# Altium footprint library PcbLib1.PcbLib: 21 footprints (part 1 of 2)
Each footprint in its own frame and in the unit in brackets; x right, y up, seen from the top. Pads: shape width x height; smd on the part's side, far side on the other; paste and mask are expansions set on the pad; w line width, h text height; cw(c..) or ccw(c..) is an arc to the next point about the centre after c.
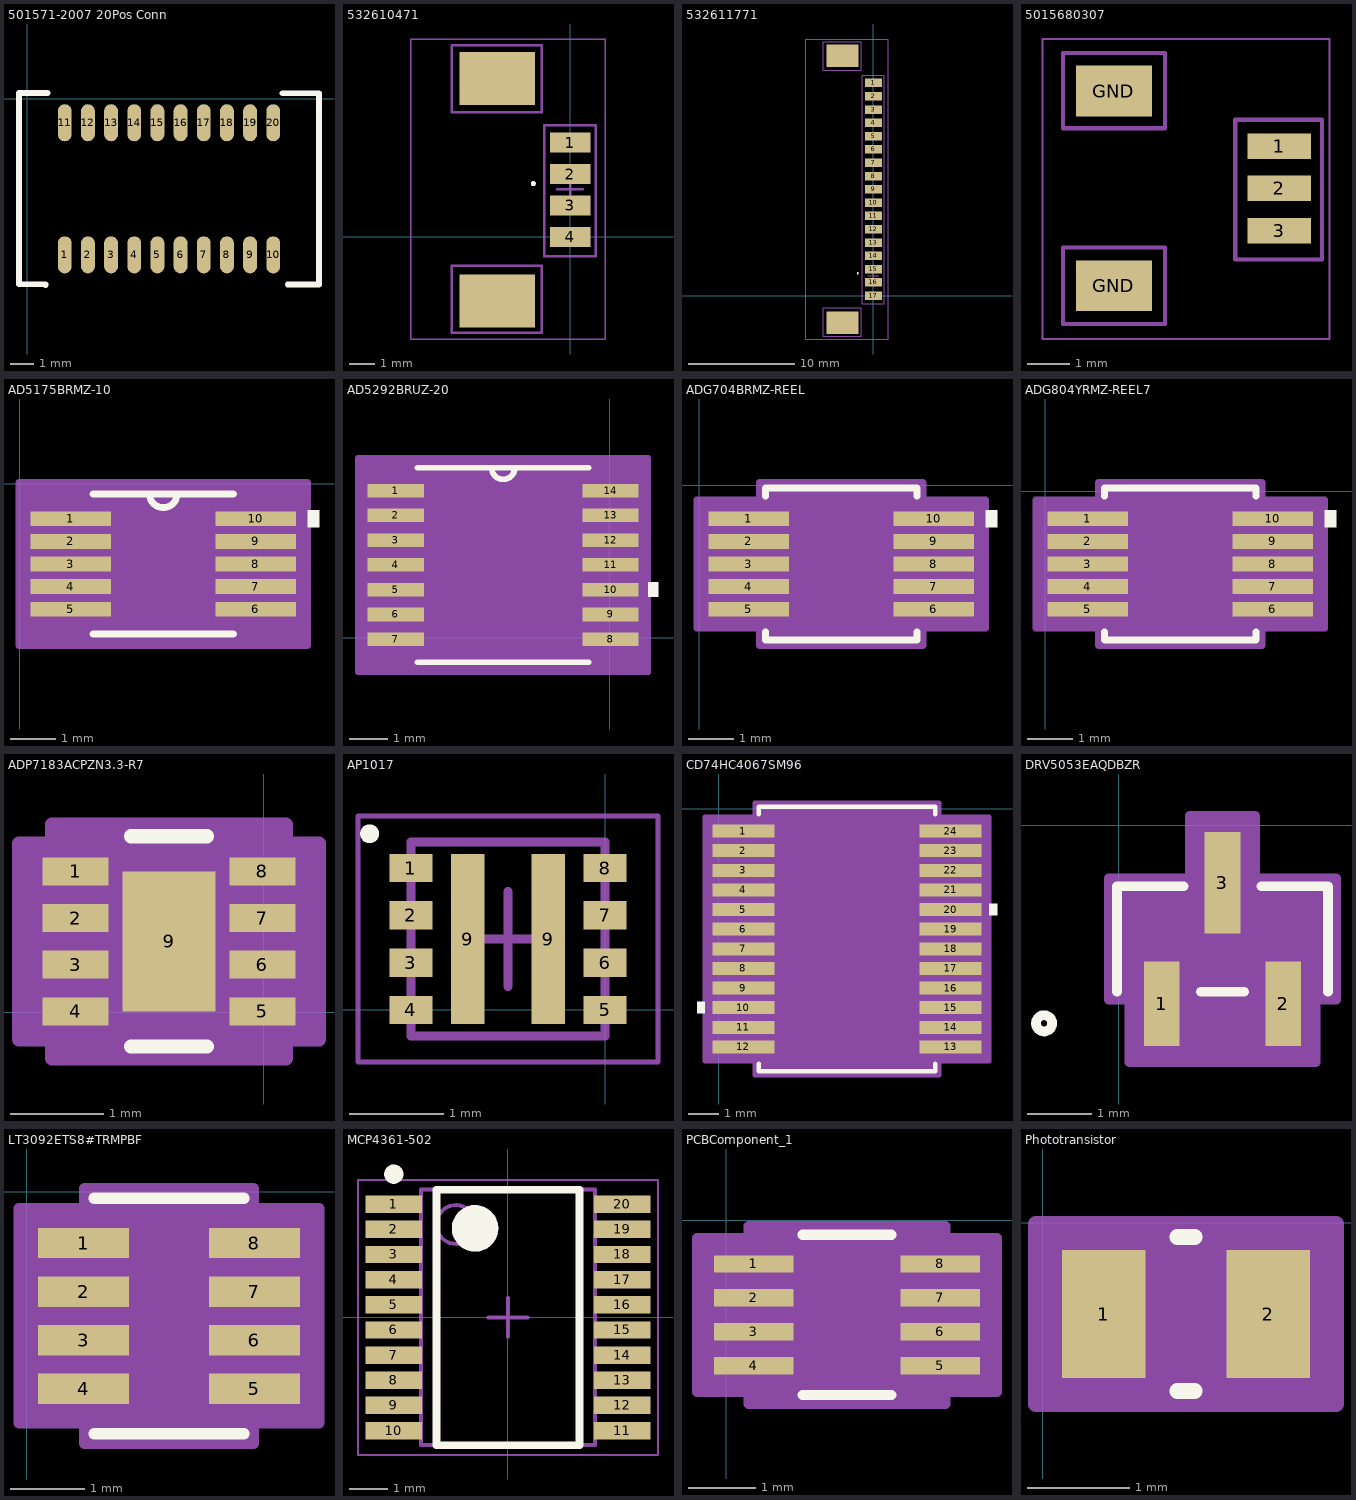
[diagram p0: the footprints below, top view; thin cyan lines are the x and y axes]

## 501571-2007 20Pos Conn [mm] "Pico-Clasp 1.0mm 20Pos"
height 8.25
pads (20):
  oval 0.6x1.6 smd: 1(1.626,-6.741) 2(2.626,-6.741) 3(3.626,-6.741) 4(4.626,-6.741) 5(5.626,-6.741) 6(6.626,-6.741) 7(7.626,-6.741) 8(8.626,-6.741) 9(9.626,-6.741) 10(10.626,-6.741) 11(1.626,-1.041) 12(2.626,-1.041) 13(3.626,-1.041) 14(4.626,-1.041) 15(5.626,-1.041) 16(6.626,-1.041) 17(7.626,-1.041) 18(8.626,-1.041) 19(9.626,-1.041) 20(10.626,-1.041)
Top Overlay:
  lines w0.254: 0.801,-8.041 0.801,-8.011 -0.349,-8.011 -0.349,0.239 0.876,0.239 ; 11.026,0.234 12.601,0.234 ; 11.251,-8.016 12.601,-8.016 12.601,0.189 ; 12.601,0.139 12.601,0.184

## 532610471 [mm] "Connector 4POS Molex PicoBlade"
pads (6):
  rect 1.6x0.8 smd: 1(0,3.75) 2(0,2.5) 3(0,1.25) 4(0,0)
  rect 3x2.1 smd: ""(-2.9,-2.55) ""(-2.9,6.3)
Top Overlay:
  circle w0.1: c-1.471,2.116 r0.05
Mechanical 13:
  lines w0.1: -4.717,-3.81 -1.143,-3.81 -1.143,-1.143 -4.717,-1.143 -4.717,-3.81 ; -4.717,4.953 -4.717,7.62 -1.143,7.62 -1.143,4.953 -4.717,4.953 ; -1.034,-0.762 1.016,-0.762 1.016,4.445 -1.034,4.445 -1.034,-0.762
Mechanical 15:
  lines w0.05: -6.35,-4.064 1.397,-4.064 1.397,7.874 -6.35,7.874 -6.35,-4.064
  lines w0.1: -0.509,1.893 0.491,1.893 ; -0.009,1.393 -0.009,2.393
3D body: height 0.6, standoff 0, extent -4.708,-3.81 -1.143,-1.206
3D body: height 0.6, standoff 0, extent -4.708,4.953 -1.143,7.557
3D body: height 0.6, standoff 0, extent -1.034,-0.762 1.016,4.445

## 532611771 [mm]
pads (19):
  rect 1.6x0.8 smd: 1(0,20) 2(0,18.75) 3(0,17.5) 4(0,16.25) 5(0,15) 6(0,13.75) 7(0,12.5) 8(0,11.25) 9(0,10) 10(0,8.75) 11(0,7.5) 12(0,6.25) 13(0,5) 14(0,3.75) 15(0,2.5) 16(0,1.25) 17(0,0)
  rect 3x2.1 smd: ""(-2.9,-2.55) ""(-2.9,22.55)
Top Overlay:
  circle w0.1: c-1.471,2.116 r0.05
Mechanical 13:
  lines w0.1: -4.717,-3.81 -1.143,-3.81 -1.143,-1.143 -4.717,-1.143 -4.717,-3.81 ; -4.717,21.209 -4.717,23.876 -1.143,23.876 -1.143,21.209 -4.717,21.209 ; -1.034,-0.762 1.016,-0.762 1.016,20.701 -1.034,20.701 -1.034,-0.762
Mechanical 15:
  lines w0.05: -6.35,-4.064 1.397,-4.064 1.397,24.13 -6.35,24.13 -6.35,-4.064
  lines w0.1: -0.509,1.893 0.491,1.893 ; -0.009,1.393 -0.009,2.393
3D body: height 0.6, standoff 0, extent -4.708,-3.81 -1.143,-1.206
3D body: height 0.6, standoff 0, extent -4.708,21.209 -1.143,23.813
3D body: height 0.6, standoff 0, extent -1.034,-0.762 1.016,20.701

## 5015680307 [mm]
height 3.2
pads (5):
  rect 1.5x0.6 smd: 1(6.223,-4.13) 2(6.223,-5.13) 3(6.223,-6.13)
  rect 1.8x1.2 smd: GND(2.323,-7.43) GND(2.323,-2.83)
Mechanical 13:
  lines w0.1: 1.118,-8.331 1.118,-6.528 3.531,-6.528 3.531,-8.331 1.118,-8.331 ; 1.118,-3.708 3.531,-3.708 3.531,-1.93 1.118,-1.93 1.118,-3.708 ; 5.189,-6.807 5.189,-3.505 7.239,-3.505 7.239,-6.807 5.189,-6.807
Mechanical 15:
  lines w0.05: 0.635,-8.687 0.635,-1.6 7.417,-1.6 7.417,-8.687 0.635,-8.687
3D body: height 0.6, standoff 0, extent 5.189,-6.807 7.239,-3.505
3D body: height 0.6, standoff 0, extent 1.118,-3.708 3.531,-1.93
3D body: height 0.6, standoff 0, extent 1.118,-8.331 3.531,-6.528

## AD5175BRMZ-10 [mil] "10K Digital Rheostat 1024POS Single Channel I2C"
height 43.31
pads (10):
  rect 70x13 smd: 1(44.5,-30.63) 2(44.5,-50.31) 3(44.5,-70) 4(44.5,-89.69) 5(44.5,-109.37) 6(205.5,-109.37) 7(205.5,-89.69) 8(205.5,-70) 9(205.5,-50.31) 10(205.5,-30.63)
Top Overlay:
  region: 250.5,-23.13 260.5,-23.13 260.5,-38.13 250.5,-38.13
  lines w6: 64,-131 186,-131 ; 64,-9 186,-9 ; 113,-9 ccw(c125,-9) 137,-9
Mechanical 13:
  lines w0: 113,-9 ccw(c125,-9) 137,-9
Mechanical 15:
  region: 250.5,-141 -0.5,-141 -0.5,1 250.5,1
  lines w6: -0.5,-141 -0.5,1 250.5,1 250.5,-141 -0.5,-141
3D body: height 10, standoff 0, extent 125,-70 135,-60

## AD5292BRUZ-20 [mil]
height 47.24
pads (14):
  rect 58x14 smd: 1(-221,151.77) 2(-221,126.18) 3(-221,100.59) 4(-221,75) 5(-221,49.41) 6(-221,23.82) 7(-221,-1.77) 8(1,-1.77) 9(1,23.82) 10(1,49.41) 11(1,75) 12(1,100.59) 13(1,126.18) 14(1,151.77)
Top Overlay:
  region: 40,56.91 50,56.91 50,41.91 40,41.91
  lines w6: -198.5,-25.5 -21.5,-25.5 ; -198.5,175.5 -21.5,175.5 ; -122,175.5 ccw(c-110,175.5) -98,175.5
Mechanical 13:
  lines w0: -122,175.5 ccw(c-110,175.5) -98,175.5
Mechanical 15:
  region: 40,-35.5 -260,-35.5 -260,185.5 40,185.5
  lines w6: -260,-35.5 40,-35.5 40,185.5 -260,185.5 -260,-35.5
3D body: height 10, standoff 0, extent -110,75 -100,85

## ADG704BRMZ-REEL [mil] "Mux 4:1"
height 43.31
pads (10):
  rect 70x13 smd: 1(43,-29) 2(43,-48.69) 3(43,-68.37) 4(43,-88.06) 5(43,-107.74) 6(204,-107.74) 7(204,-88.06) 8(204,-68.37) 9(204,-48.69) 10(204,-29)
Top Overlay:
  region: 249,-21.5 259,-21.5 259,-36.5 249,-36.5
  lines w6: 57.5,-127.34 57.5,-134.37 189.5,-134.37 189.5,-127.34 ; 57.5,-9.4 57.5,-2.37 189.5,-2.37 189.5,-9.4
Mechanical 13:
  lines w0: 111.5,-7.37 ccw(c123.5,-7.37) 135.5,-7.37
Mechanical 15:
  region: 52.5,-124.24 -2,-124.24 -2,-12.5 52.5,-12.5 52.5,2.63 194.5,2.63 194.5,-12.5 249,-12.5 249,-124.24 194.5,-124.24 194.5,-139.37 52.5,-139.37
  lines w6: -2,-124.24 -2,-12.5 52.5,-12.5 52.5,2.63 194.5,2.63 194.5,-12.5 249,-12.5 249,-124.24 194.5,-124.24 194.5,-139.37 52.5,-139.37 52.5,-124.24 -2,-124.24
3D body: height 10, standoff 0, extent 123.5,-68.37 133.5,-58.37

## ADG804YRMZ-REEL7 [mil] "4:1 mUX"
height 43.31
pads (10):
  rect 70x13 smd: 1(37,-24) 2(37,-43.69) 3(37,-63.37) 4(37,-83.06) 5(37,-102.74) 6(198,-102.74) 7(198,-83.06) 8(198,-63.37) 9(198,-43.69) 10(198,-24)
Top Overlay:
  region: 243,-16.5 253,-16.5 253,-31.5 243,-31.5
  lines w6: 51.5,-122.34 51.5,-129.37 183.5,-129.37 183.5,-122.34 ; 51.5,-4.4 51.5,2.63 183.5,2.63 183.5,-4.4
Mechanical 13:
  lines w0: 105.5,-2.37 ccw(c117.5,-2.37) 129.5,-2.37
Mechanical 15:
  region: 46.5,-119.24 -8,-119.24 -8,-7.5 46.5,-7.5 46.5,7.63 188.5,7.63 188.5,-7.5 243,-7.5 243,-119.24 188.5,-119.24 188.5,-134.37 46.5,-134.37
  lines w6: -8,-119.24 46.5,-119.24 46.5,-134.37 188.5,-134.37 188.5,-119.24 243,-119.24 243,-7.5 188.5,-7.5 188.5,7.63 46.5,7.63 46.5,-7.5 -8,-7.5 -8,-119.24
3D body: height 10, standoff 0, extent 117.5,-63.37 127.5,-53.37

## ADP7183ACPZN3.3-R7 [mm] "3.3V Voltage Regulator"
height 0.55
pads (9):
  rect 0.705x0.3 smd: 1(-2.018,1.512) 2(-2.018,1.012) 3(-2.018,0.512) 4(-2.018,0.012) 5(-0.014,0.012) 6(-0.014,0.512) 7(-0.014,1.012) 8(-0.014,1.512)
  rect 1x1.5 smd paste-0.737: 9(-1.016,0.762)
Top Overlay:
  lines w0.152: -1.423,-0.365 -0.609,-0.365 ; -1.423,1.889 -0.609,1.889
Top Paste:
  region: -0.516,1.512 -1.516,1.512 -1.516,0.012 -0.516,0.012
Mechanical 13:
  lines w0: -1.321,1.762 ccw(c-1.016,1.762) -0.711,1.762
Mechanical 15:
  region: -2.27,-0.289 -2.625,-0.289 -2.625,1.813 -2.27,1.813 -2.27,2.016 0.238,2.016 0.238,1.813 0.593,1.813 0.593,-0.289 0.238,-0.289 0.238,-0.492 -2.27,-0.492
  lines w0.152: -2.625,-0.289 -2.625,1.813 -2.27,1.813 -2.27,2.016 0.238,2.016 0.238,1.813 0.593,1.813 0.593,-0.289 0.238,-0.289 0.238,-0.492 -2.27,-0.492 -2.27,-0.289 -2.625,-0.289
3D body: height 0.25, standoff 0, extent -1.016,0.762 -0.762,1.016

## AP1017 [mm] "SON, 8-Leads, Body 2.00x2.00mm, Pitch 0.50mm, Thermal Pad 1.80x1.07mm, IPC Medium Density"
height 0.6
pads (10):
  rect 0.45x0.3 smd: 1(-2.05,1.5) 2(-2.05,1) 3(-2.05,0.5) 4(-2.05,0) 5(0,0) 6(0,0.5) 7(0,1) 8(0,1.5)
  rect 0.35x1.8 smd: 9(-1.45,0.75) 9(-0.6,0.75)
Top Overlay:
  circle w0.1: c-2.487,1.862 r0.05
Mechanical 13:
  lines w0.1: -2.05,-0.275 -2.05,1.775 0,1.775 0,-0.275 -2.05,-0.275
Mechanical 15:
  lines w0.05: -2.61,-0.55 -2.61,2.05 0.56,2.05 0.56,-0.55 -2.61,-0.55
  lines w0.1: -1.525,0.75 -0.525,0.75 ; -1.025,0.25 -1.025,1.25
3D body: height 0.6, standoff 0, extent -2.05,-0.275 0,1.775

## CD74HC4067SM96 [mil] "16:1 Mux"
height 78.74
pads (24):
  rect 81x17 smd: 1(32,-29) 2(32,-54.59) 3(32,-80.18) 4(32,-105.77) 5(32,-131.36) 6(32,-156.95) 7(32,-182.54) 8(32,-208.13) 9(32,-233.72) 10(32,-259.31) 11(32,-284.91) 12(32,-310.5) 13(302,-310.5) 14(302,-284.91) 15(302,-259.31) 16(302,-233.72) 17(302,-208.13) 18(302,-182.54) 19(302,-156.95) 20(302,-131.36) 21(302,-105.77) 22(302,-80.18) 23(302,-54.59) 24(302,-29)
Top Overlay:
  region: -18.5,-251.81 -28.5,-251.81 -28.5,-266.81 -18.5,-266.81
  region: 352.5,-123.86 362.5,-123.86 362.5,-138.86 352.5,-138.86
  lines w6: 52,-332.1 52,-342.25 282,-342.25 282,-332.1 ; 52,-7.4 52,2.75 282,2.75 282,-7.4
Mechanical 13:
  lines w0: 155,-2.25 ccw(c167,-2.25) 179,-2.25
Mechanical 15:
  region: 47,-329 -18.5,-329 -18.5,-10.5 47,-10.5 47,7.75 287,7.75 287,-10.5 352.5,-10.5 352.5,-329 287,-329 287,-347.25 47,-347.25
  lines w6: -18.5,-329 -18.5,-10.5 47,-10.5 47,7.75 287,7.75 287,-10.5 352.5,-10.5 352.5,-329 287,-329 287,-347.25 47,-347.25 47,-329 -18.5,-329
3D body: height 10, standoff 0, extent 167,-169.75 177,-159.75

## DRV5053EAQDBZR [mil] "Hall Sensor Linear SOT-23-3"
height 44.09
pads (3):
  rect 22x52 smd: 1(26.6,-110) 2(101.4,-110)
  rect 22x62.5 smd: 3(64,-35.25)
Top Overlay:
  circle w6: c-46,-122 r5
  lines w6: -1,-102.5 -1,-37.5 39.9,-37.5 ; 50.7,-102.5 77.3,-102.5 ; 88.1,-37.5 129,-37.5 129,-102.5
Mechanical 13:
  circle w0: c14,-87.5 r5
Mechanical 15:
  region: 124,-97.5 4,-97.5 4,-42.5 124,-42.5
  region: -6,-107.5 -6,-32.5 44,-32.5 44,6 84,6 84,-32.5 134,-32.5 134,-107.5 121.4,-107.5 121.4,-146 6.6,-146 6.6,-107.5
  lines w6: -6,-107.5 6.6,-107.5 6.6,-146 121.4,-146 121.4,-107.5 134,-107.5 134,-32.5 84,-32.5 84,6 44,6 44,-32.5 -6,-32.5 -6,-107.5
3D body: height 10, standoff 0, extent 64,-70 74,-60

## LT3092ETS8#TRMPBF [mil] "IC Current Source 1%"
height 39.37
pads (8):
  rect 48x16 smd: 1(30,-27) 2(30,-52.59) 3(30,-78.18) 4(30,-103.77) 5(120,-103.77) 6(120,-78.18) 7(120,-52.59) 8(120,-27)
Top Overlay:
  lines w6: 35.5,-127.39 114.5,-127.39 ; 35.5,-3.39 114.5,-3.39
Mechanical 13:
  lines w0: 63,-8.39 ccw(c75,-8.39) 87,-8.39
Mechanical 15:
  region: 30.5,-121.77 -4,-121.77 -4,-9 30.5,-9 30.5,1.61 119.5,1.61 119.5,-9 154,-9 154,-121.77 119.5,-121.77 119.5,-132.39 30.5,-132.39
  lines w6: -4,-121.77 30.5,-121.77 30.5,-132.39 119.5,-132.39 119.5,-121.77 154,-121.77 154,-9 119.5,-9 119.5,1.61 30.5,1.61 30.5,-9 -4,-9 -4,-121.77
3D body: height 10, standoff 0, extent 75,-65.39 85,-55.39

## MCP4361-502 [mm] "TSOP, 20-Leads, Body 6.50x4.40mm, Pitch 0.65mm, IPC Medium Density"
height 1.2
pads (20):
  rect 1.45x0.45 smd: 1(-2.95,2.925) 2(-2.95,2.275) 3(-2.95,1.625) 4(-2.95,0.975) 5(-2.95,0.325) 6(-2.95,-0.325) 7(-2.95,-0.975) 8(-2.95,-1.625) 9(-2.95,-2.275) 10(-2.95,-2.925) 11(2.95,-2.925) 12(2.95,-2.275) 13(2.95,-1.625) 14(2.95,-0.975) 15(2.95,-0.325) 16(2.95,0.325) 17(2.95,0.975) 18(2.95,1.625) 19(2.95,2.275) 20(2.95,2.925)
Top Overlay:
  circle w0.6: c-0.85,2.3 r0.3
  circle w0.25: c-2.95,3.7 r0.125
  lines w0.2: -1.85,-3.3 1.85,-3.3 1.85,3.3 -1.85,3.3 -1.85,-3.3
Mechanical 13:
  circle w0.1: c-1.35,2.4 r0.5
  lines w0.1: -2.25,-3.3 2.25,-3.3 2.25,3.3 -2.25,3.3 -2.25,-3.3
Mechanical 15:
  lines w0.05: -3.875,-3.55 3.875,-3.55 3.875,3.55 -3.875,3.55 -3.875,-3.55
  lines w0.1: -0.5,0 0.5,0 ; 0,-0.5 0,0.5
3D body: height 1.2, standoff 0.05, extent -2.25,-3.3 2.25,3.3

## PCBComponent_1 [mil]
pads (8):
  rect 46x10 smd: 1(16,-25.47) 2(16,-45.16) 3(16,-64.84) 4(16,-84.53) 5(124,-84.53) 6(124,-64.84) 7(124,-45.16) 8(124,-25.47)
Top Overlay:
  lines w6: 44.32,-101.5 95.68,-101.5 ; 44.32,-8.5 95.68,-8.5
Mechanical 13:
  lines w0: 58,-13.5 ccw(c70,-13.5) 82,-13.5
Mechanical 15:
  region: 13,-99.53 -17,-99.53 -17,-10.47 13,-10.47 13,-3.5 127,-3.5 127,-10.47 157,-10.47 157,-99.53 127,-99.53 127,-106.5 13,-106.5
  lines w6: -17,-99.53 -17,-10.47 13,-10.47 13,-3.5 127,-3.5 127,-10.47 157,-10.47 157,-99.53 127,-99.53 127,-106.5 13,-106.5 13,-99.53 -17,-99.53
3D body: height 10, standoff 0, extent 70,-55 80,-45

## Phototransistor [mil]
pads (2):
  rect 32x49 smd: 1(23.5,-35) 2(86.5,-35)
Top Overlay:
  lines w6: 51.61,-64.5 58.39,-64.5 ; 51.61,-5.5 58.39,-5.5
Mechanical 15:
  region: 112.5,-69.5 -2.5,-69.5 -2.5,-0.5 112.5,-0.5
  lines w6: -2.5,-69.5 -2.5,-0.5 112.5,-0.5 112.5,-69.5 -2.5,-69.5
3D body: height 10, standoff 0, extent 55,-35 65,-25